# Altium footprint library 主机控制板.PCBLIB: 37 footprints (part 3 of 3)
Each footprint in its own frame and in the unit in brackets; x right, y up, seen from the top. Pads: shape width x height; smd on the part's side, far side on the other; paste and mask are expansions set on the pad; w line width, h text height; cw(c..) or ccw(c..) is an arc to the next point about the centre after c.
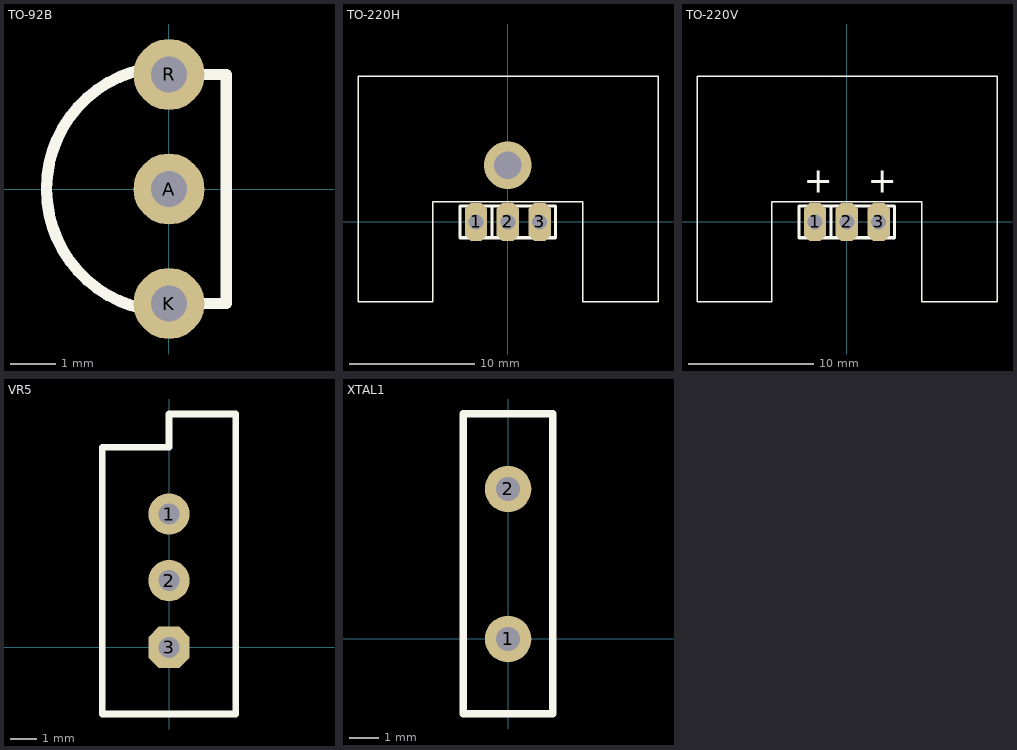
[diagram p2: the footprints below, top view; thin cyan lines are the x and y axes]

## TO-92B [mil]
pads (3):
  round 62 hole 31.5: A(0.08,0.4) K(0.08,-99.6) R(0.08,100.4)
顶层丝印:
  lines w10: 0.08,-106.6 cw(c0.08,0.4) 0.08,107.4 ; 0.08,-99.6 50.08,-99.6 50.08,100.4 0.08,100.4

## TO-220H [mil]
pads (3):
  oct 70x120 hole 47.24: 1(-100,0) 2(0,0) 3(100,0)
via -0.37,177.73 diameter 149.61 hole 86.61
顶层丝印:
  lines w4: -471,-251 -236,-251 -236,64 236,64 236,-251 472,-251 472,458 -471,458 -471,-251
  lines w10: -50,-50 -50,50 ; -150,-50 150,-50 150,50 -150,50 -150,-50

## TO-220V [mil]
pads (3):
  oct 70x120 hole 47.24: 1(-100,0) 2(0,0) 3(100,0)
顶层丝印:
  lines w4: -471,-251 -236,-251 -236,64 236,64 236,-251 472,-251 472,458 -471,458 -471,-251
  lines w10: -50,-50 -50,50 ; -150,-50 150,-50 150,50 -150,50 -150,-50
  text "+" at -134.7,91.18 h80
  text "+" at 66.15,91.18 h80

## VR5 [mil]
pads (3):
  round 62 hole 31.5: 1(0,200) 2(0,100)
  oct 62x62 hole 31.5: 3(0,0)
顶层丝印:
  lines w10: -100,-100 -100,300 0,300 0,350 100,350 100,-100 -100,-100

## XTAL1 [mil]
pads (2):
  round 62 hole 31.5: 1(0,0) 2(0,200)
顶层丝印:
  lines w10: -60,-100 60,-100 60,300 -60,300 -60,-100